# Altium schematic symbol library micro8051.SchLib: 6 symbols
Pins are listed as number, name and electrical type; pins without a type are passive.

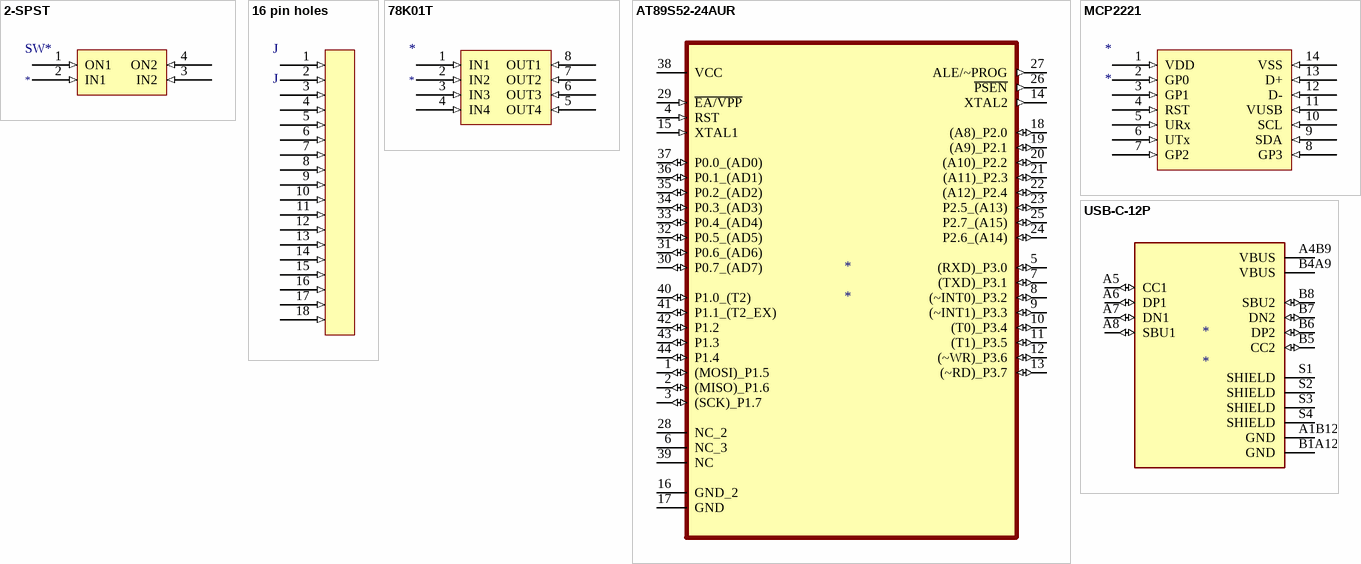
[diagram p0: symbols 2-SPST to USB-C-12P]

## 2-SPST
designator SW*
CT2062ST-ND
footprint CT2062ST-ND (2-SPST)
pins: 1 ON1 (in), 2 IN1 (in), 3 IN2 (in), 4 ON2 (in)

## 16 pin holes
designator J, comment J
footprint 16 pin holes
pins: 1 (in), 2 (in), 3 (in), 4 (in), 5 (in), 6 (in), 7 (in), 8 (in), 9 (in), 10 (in), 11 (in), 12 (in), 13 (in), 14 (in), 15 (in), 16 (in), 17 (in), 18 (in)

## 78K01T
designator *
footprint 78K01T
pins: 1 IN1 (in), 2 IN2 (in), 3 IN3 (in), 4 IN4 (in), 5 OUT4 (in), 6 OUT3 (in), 7 OUT2 (in), 8 OUT1 (in)

## AT89S52-24AUR
designator *
footprint AT89S52-24AUR
pins: 1 (MOSI)_P1.5 (io), 2 (MISO)_P1.6 (io), 3 (SCK)_P1.7 (io), 4 RST (in), 5 (RXD)_P3.0 (io), 6 NC_3, 7 (TXD)_P3.1 (io), 8 (~INT0)_P3.2 (io), 9 (~INT1)_P3.3 (io), 10 (T0)_P3.4 (io), 11 (T1)_P3.5 (io), 12 (~WR)_P3.6 (io), 13 (~RD)_P3.7 (io), 14 XTAL2 (out), 15 XTAL1 (in), 16 GND_2, 17 GND, 18 (A8)_P2.0 (io), 19 (A9)_P2.1 (io), 20 (A10)_P2.2 (io), 21 (A11)_P2.3 (io), 22 (A12)_P2.4 (io), 23 P2.5_(A13) (io), 24 P2.6_(A14) (io), 25 P2.7_(A15) (io), 26 ~{PSEN} (out), 27 ALE/~PROG (out), 28 NC_2, 29 ~{EA/VPP} (in), 30 P0.7_(AD7) (io), 31 P0.6_(AD6) (io), 32 P0.5_(AD5) (io), 33 P0.4_(AD4) (io), 34 P0.3_(AD3) (io), 35 P0.2_(AD2) (io), 36 P0.1_(AD1) (io), 37 P0.0_(AD0) (io), 38 VCC (power), 39 NC, 40 P1.0_(T2) (io), 41 P1.1_(T2_EX) (io), 42 P1.2 (io), 43 P1.3 (io), 44 P1.4 (io)

## MCP2221
designator *
footprint MCP2221
pins: 1 VDD (in), 2 GP0 (in), 3 GP1 (in), 4 RST (in), 5 URx (in), 6 UTx (in), 7 GP2 (in), 8 GP3 (in), 9 SDA (in), 10 SCL (in), 11 VUSB (in), 12 D- (in), 13 D+ (in), 14 VSS (in)

## USB-C-12P
designator *
footprint USB-C-12PIN
pins: A1B12 GND (power), A4B9 VBUS (power), A5 CC1 (io), A6 DP1 (io), A7 DN1 (io), A8 SBU1 (io), B1A12 GND (power), B4A9 VBUS (power), B5 CC2 (io), B6 DP2 (io), B7 DN2 (io), B8 SBU2 (io), S1 SHIELD, S2 SHIELD, S3 SHIELD, S4 SHIELD